# Altium footprint library IC_On_Semiconductor_MC74HC595ADR2G_eec_MFG.PcbLib: 1 footprints
Each footprint in its own frame and in the unit in brackets; x right, y up, seen from the top. Pads: shape width x height; smd on the part's side, far side on the other; paste and mask are expansions set on the pad; w line width, h text height; cw(c..) or ccw(c..) is an arc to the next point about the centre after c.
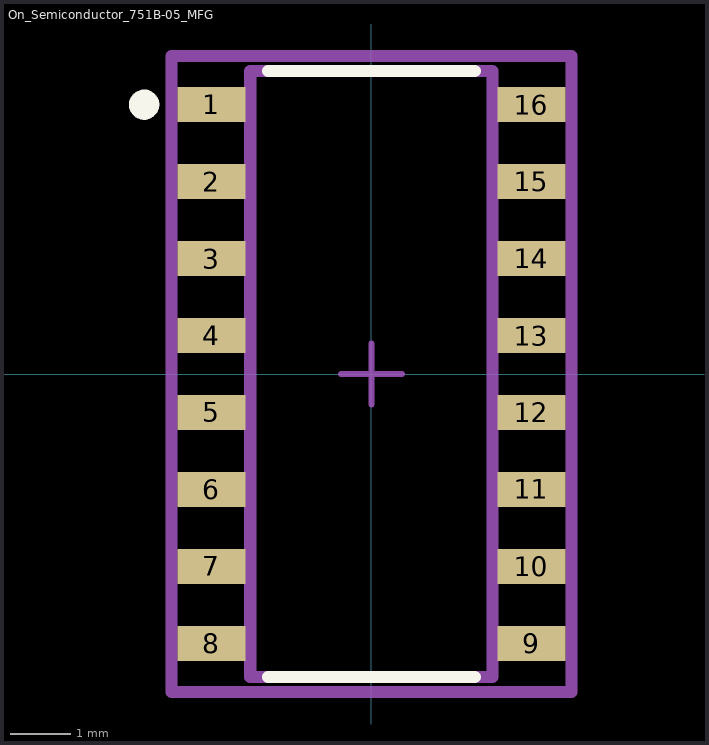
[diagram p0: the footprint, top view; thin cyan lines are the x and y axes]

## On_Semiconductor_751B-05_MFG [mm]
pads (16):
  rect 1.12x0.58 smd paste+0 mask+0: 1(-2.64,4.445) 2(-2.64,3.175) 3(-2.64,1.905) 4(-2.64,0.635) 5(-2.64,-0.635) 6(-2.64,-1.905) 7(-2.64,-3.175) 8(-2.64,-4.445) 9(2.64,-4.445) 10(2.64,-3.175) 11(2.64,-1.905) 12(2.64,-0.635) 13(2.64,0.635) 14(2.64,1.905) 15(2.64,3.175) 16(2.64,4.445)
Top Overlay:
  circle w0.25: c-3.75,4.445 r0.125
  lines w0.2: -1.705,-5 1.705,-5 ; -1.705,5 1.705,5
Mechanical 10:
  lines w0.2: -3.3,-5.25 3.3,-5.25 3.3,5.25 -3.3,5.25 -3.3,-5.25
  text ".Designator" at 0,0 h1
Mechanical 12:
  lines w0.2: -2,-5 2,-5 2,5 -2,5 -2,-5
Mechanical 15:
  lines w0.1: -0.5,0 0.5,0 ; 0,-0.5 0,0.5
  lines w0.2: -3.3,-5.25 3.3,-5.25 3.3,5.25 -3.3,5.25 -3.3,-5.25
3D body "IC_On_Semiconductor_MC74HC595ADR2G_eec.STEP": height 0.25, standoff 0, extent -3.3,-5.25 3.3,5.25